# Altium schematic symbol library switch_dip.SchLib: 12 symbols
Pins are listed as number, name and electrical type; pins without a type are passive.

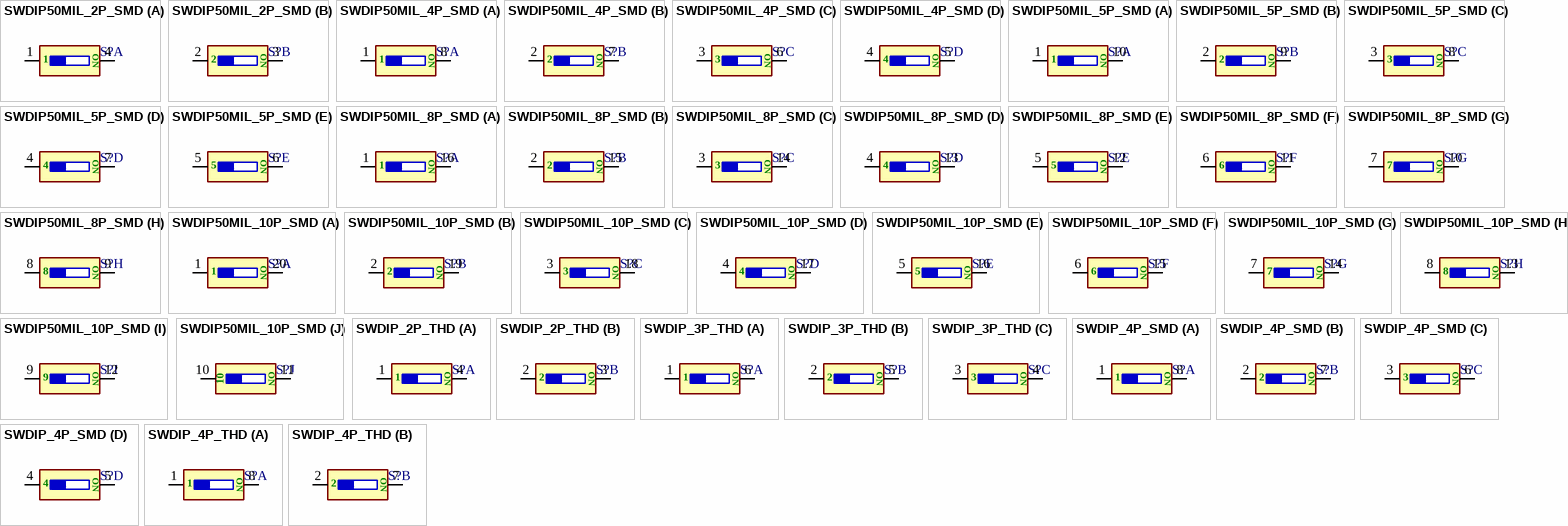
[diagram p0: symbols SWDIP50MIL_2P_SMD to SWDIP_4P_THD]

## SWDIP50MIL_2P_SMD
designator S?, comment DIPSW2  (value not drawn)
SWITCH, DIP, 2P, SMD; MANF: C&K; MANF_P#: TDA02H0JB1R; VALUE: DIPSW2
footprint DIPSW127_2S (SWITCH DIP 2POS, SMD, 1.27mm, 6.1X2.4mm www.ck-components.com, TDA series)
part A pins: 1 A1, 4 B1
part B pins: 2 A2, 3 B2
part A text: ON
part B text: ON

## SWDIP50MIL_4P_SMD
designator S?, comment DIPSW4  (value not drawn)
SWITCH, DIP, 4P, SMD; MANF: C&K; MANF_P#: TDA04H0JB1R; VALUE: DIPSW4; PRICE: 2.27$
footprint DIPSW127_4S (SWITCH DIP 4POS, SMD, 1.27mm, 6.1X6.2mm www.ck-components.com, TDA series)
part A pins: 1 A1, 8 B1
part B pins: 2 A2, 7 B2
part C pins: 3 A3, 6 B3
part D pins: 4 A4, 5 B4
part A text: ON
part B text: ON
part C text: ON
part D text: ON

## SWDIP50MIL_5P_SMD
designator S?, comment DIPSW5  (value not drawn)
SWITCH, DIP, 5P, SMD; MANF: C&K; MANF_P#: TDA05H0JB1R; VALUE: DIPSW5
footprint DIPSW127_5S (SWITCH DIP 5POS, SMD, 1.27mm, 6.1X7.5mm www.ck-components.com, TDA series)
part A pins: 1 A1, 10 B1
part B pins: 2 A2, 9 B2
part C pins: 3 A3, 8 B3
part D pins: 4 A4, 7 B4
part E pins: 5 A5, 6 B5
part A text: ON
part B text: ON
part C text: ON
part D text: ON
part E text: ON

## SWDIP50MIL_8P_SMD
designator S?, comment DIPSW8  (value not drawn)
SWITCH, DIP, 8P, SMD; MANF: C&K; MANF_P#: TDA08H0JB1R; VALUE: DIPSW8
footprint DIPSW127_8S (SWITCH DIP 8POS, SMD, 1.27mm, 6.1X11.3mm www.ck-components.com, TDA series)
part A pins: 1 A1, 16 B1
part B pins: 2 A2, 15 B2
part C pins: 3 A3, 14 B3
part D pins: 4 A4, 13 B4
part E pins: 5 A5, 12 B5
part F pins: 6 A6, 11 B6
part G pins: 7 A7, 10 B7
part H pins: 8 A8, 9 B8
part A text: ON
part B text: ON
part C text: ON
part D text: ON
part E text: ON
part F text: ON
part G text: ON
part H text: ON

## SWDIP50MIL_10P_SMD
designator S?, comment DIPSW10  (value not drawn)
SWITCH, DIP, 10P, SMD; MANF: C&K; MANF_P#: TDA10H0JB1R; VALUE: DIPSW10
footprint DIPSW127_10S (SWITCH DIP 10POS, SMD, 1.27mm, 6.1X13.8mm)
part A pins: 1 A1, 20 B1
part B pins: 2 A2, 19 B2
part C pins: 3 A3, 18 B3
part D pins: 4 A4, 17 B4
part E pins: 5 A5, 16 B5
part F pins: 6 A6, 15 B6
part G pins: 7 A7, 14 B7
part H pins: 8 A8, 13 B8
part I pins: 9 A9, 12 B9
part J pins: 10 A10, 11 B10
part A text: ON
part B text: ON
part C text: ON
part D text: ON
part E text: ON
part F text: ON
part G text: ON
part H text: ON
part I text: ON
part J text: ON

## SWDIP_2P_THD
designator S?, comment DIPSW2  (value not drawn)
SWITCH, DIP, 2P, THD; MANF: MANF; MANF_P#: MANF_P#; VALUE: DIPSW2
footprint DIPSW254_2 (SWITCH DIP 2POS, THD, 2.54mm, SD02)
part A pins: 1 A1, 4 B1
part B pins: 2 A2, 3 B2
part A text: ON
part B text: ON

## SWDIP_3P_THD
designator S?, comment DIPSW3  (value not drawn)
SWITCH, DIP, 3P, THD; MANF: MANF; MANF_P#: MANF_P#; VALUE: DIPSW3
footprint DIPSW254_3 (SWITCH DIP 3POS, THD, 2.54mm, SD03)
part A pins: 1 A1, 6 B1
part B pins: 2 A2, 5 B2
part C pins: 3 A3, 4 B3
part A text: ON
part B text: ON
part C text: ON

## SWDIP_4P_SMD
designator S?, comment DIPSW4  (value not drawn)
SWITCH, DIP, 4P, THD; MANF: MANF; MANF_P#: MANF_P#; VALUE: DIPSW4
footprint DIPSW254_4S (SWITCH DIP 4POS, SMD, 2.54mm, CTS-219-04)
part A pins: 1 A1, 8 B1
part B pins: 2 A2, 7 B2
part C pins: 3 A3, 6 B3
part D pins: 4 A4, 5 B4
part A text: ON
part B text: ON
part C text: ON
part D text: ON

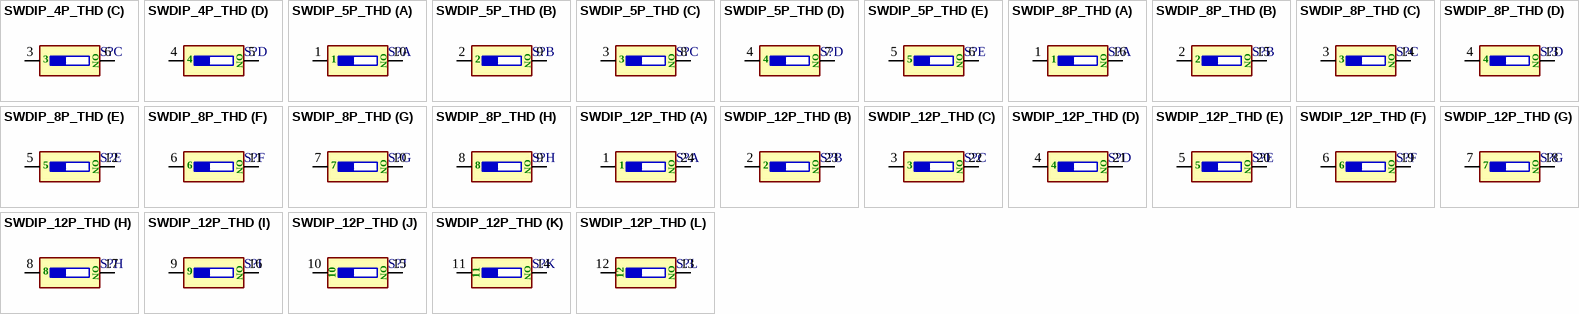
[diagram p1: symbols SWDIP_4P_THD to SWDIP_12P_THD]

## SWDIP_4P_THD
designator S?, comment DIPSW4  (value not drawn)
SWITCH, DIP, 4P, THD; MANF: MANF; MANF_P#: MANF_P#; VALUE: DIPSW4
footprint DIPSW254_4 (SWITCH DIP 4POS, THD, 2.54mm, YL04)
part A pins: 1 A1, 8 B1
part B pins: 2 A2, 7 B2
part C pins: 3 A3, 6 B3
part D pins: 4 A4, 5 B4
part A text: ON
part B text: ON
part C text: ON
part D text: ON

## SWDIP_5P_THD
designator S?, comment DIPSW5  (value not drawn)
SWITCH, DIP, 5P, THD; MANF: MANF; MANF_P#: MANF_P#; VALUE: DIPSW5
footprint DIPSW254_5 (SWITCH DIP 5POS, THD, 2.54mm,)
part A pins: 1 A1, 10 B1
part B pins: 2 A2, 9 B2
part C pins: 3 A3, 8 B3
part D pins: 4 A4, 7 B4
part E pins: 5 A5, 6 B5
part A text: ON
part B text: ON
part C text: ON
part D text: ON
part E text: ON

## SWDIP_8P_THD
designator S?, comment DIPSW8  (value not drawn)
SWITCH, DIP, 8P, THD; MANF: MANF; MANF_P#: MANF_P#; VALUE: DIPSW8
footprint DIPSW254_8 (SWITCH DIP 8POS, THD, 2.54mm,)
part A pins: 1 A1, 16 B1
part B pins: 2 A2, 15 B2
part C pins: 3 A3, 14 B3
part D pins: 4 A4, 13 B4
part E pins: 5 A5, 12 B5
part F pins: 6 A6, 11 B6
part G pins: 7 A7, 10 B7
part H pins: 8 A8, 9 B8
part A text: ON
part B text: ON
part C text: ON
part D text: ON
part E text: ON
part F text: ON
part G text: ON
part H text: ON

## SWDIP_12P_THD
designator S?, comment DIPSW12  (value not drawn)
SWITCH, DIP, 12P, THD; MANF: MANF; MANF_P#: MANF_P#; VALUE: DIPSW12
footprint DIPSW254_12 (SWITCH DIP 12POS, THD, 2.54mm,)
part A pins: 1 A1, 24 B1
part B pins: 2 A2, 23 B2
part C pins: 3 A3, 22 B3
part D pins: 4 A4, 21 B4
part E pins: 5 A5, 20 B5
part F pins: 6 A6, 19 B6
part G pins: 7 A7, 18 B7
part H pins: 8 A8, 17 B8
part I pins: 9 A9, 16 B9
part J pins: 10 A10, 15 B10
part K pins: 11 A11, 14 B11
part L pins: 12 A12, 13 B12
part A text: ON
part B text: ON
part C text: ON
part D text: ON
part E text: ON
part F text: ON
part G text: ON
part H text: ON
part I text: ON
part J text: ON
part K text: ON
part L text: ON